# Altium footprint library Sangjian_Pcb.PcbLib: 434 footprints (part 27 of 28)
Each footprint in its own frame and in the unit in brackets; x right, y up, seen from the top. Pads: shape width x height; smd on the part's side, far side on the other; paste and mask are expansions set on the pad; w line width, h text height; cw(c..) or ccw(c..) is an arc to the next point about the centre after c.
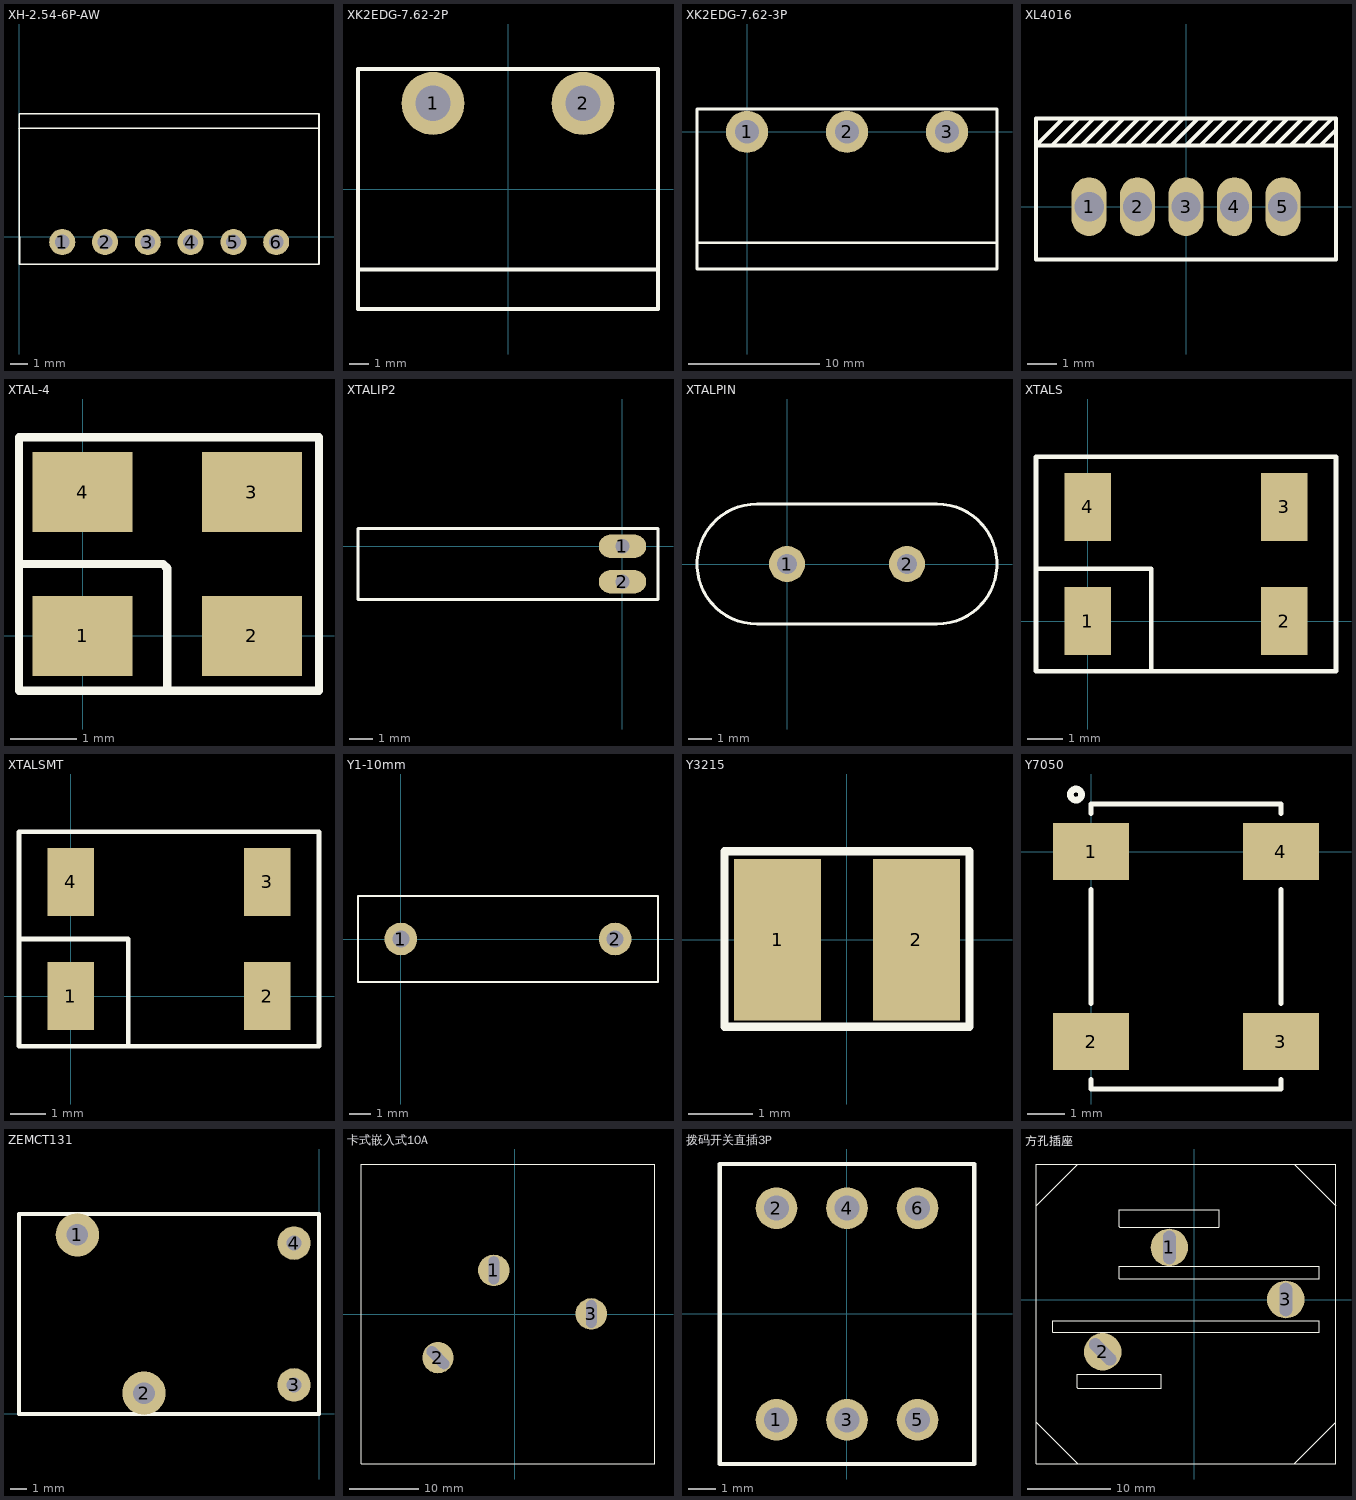
[diagram p26: the footprints below, top view; thin cyan lines are the x and y axes]

## XH-2.54-6P-AW [mil] "2.54白色端子 弯针6P"
pads (6):
  round 60 hole 34: 1(98.43,-11.81) 2(196.85,-11.81) 3(295.28,-11.81) 4(393.7,-11.81) 5(492.13,-11.81) 6(590.55,-11.81)
Top Overlay:
  lines w3.94: -1,250 689,250 ; -0.46,0 -0.46,283.46 688.98,283.46 ; 0,-63.06 688.98,-63.06 ; 0,-63 0,0 ; 689,-61 689,3 ; 689,1 689,283

## XK2EDG-7.62-2P [mm]
pads (2):
  round 3.2 hole 1.8: 1(-3.81,4.35) 2(3.81,4.35)
Top Overlay:
  lines w0.2: -7.569,-4.1 7.544,-4.1 ; -7.62,-6.1 -7.62,6.1 7.62,6.1 7.62,-6.1 -7.62,-6.1

## XK2EDG-7.62-3P [mm]
pads (3):
  round 3.2 hole 1.8: 1(0,0) 2(7.62,0) 3(15.24,0)
Top Overlay:
  lines w0.2: -3.759,-8.45 19.05,-8.45 ; -3.81,-10.45 19.05,-10.45 19.05,1.75 -3.81,1.75 -3.81,-10.45

## XL4016 [mm]
pads (5):
  oval 1.2x2 hole 1: 1(-3.3,0) 2(-1.65,0) 3(0,0) 4(1.65,0) 5(3.3,0)
Top Overlay:
  lines w0.127: -4.572,2.083 -3.653,2.997 ; -4.191,2.997 -5.11,2.083 5.11,2.083 ; -4.064,2.083 -3.145,2.997 ; -3.556,2.083 -2.637,2.997 ; -3.048,2.083 -2.129,2.997 ; -2.54,2.083 -1.621,2.997 ; -2.032,2.083 -1.113,2.997 ; -1.524,2.083 -0.605,2.997 ; -1.016,2.083 -0.097,2.997 ; -0.508,2.083 0.411,2.997 ; 0,2.083 0.919,2.997 ; 0.483,2.083 1.402,2.997 ; 1.016,2.083 1.935,2.997 ; 1.524,2.083 2.443,2.997 ; 2.032,2.083 2.951,2.997 ; 2.54,2.083 3.459,2.997 ; 3.048,2.083 3.967,2.997 ; 3.556,2.083 4.475,2.997 ; 4.064,2.083 4.983,2.997 ; 4.572,2.083 5.109,2.617 ; -5.11,-1.8 5.11,-1.8 5.11,3 -5.11,3 -5.11,-1.8

## XTAL-4 [mm]
pads (4):
  rect 1.5x1.2 smd: 1(0,0) 2(2.54,0) 3(2.54,2.159) 4(0,2.159)
Top Overlay:
  lines w0.127: -0.954,1.079 1.207,1.079 1.27,1.016 1.27,-0.762 ; -0.954,-0.821 -0.954,2.979 3.546,2.979 3.546,-0.821 -0.954,-0.821

## XTALIP2 [mm]
pads (2):
  oval 2x1 hole 0.6: 1(0,0) 2(0,-1.5)
Top Overlay:
  lines w0.127: 0.508,-2.25 0.992,-2.25 ; -11.176,-2.25 1.5,-2.25 1.5,0.75 -11.176,0.75 -11.176,-2.25

## XTALPIN [mil]
pads (2):
  round 60 hole 34: 1(0,0) 2(200,0)
Top Overlay:
  lines w5: -50,-100 cw(c-50,0) -50,100 250,100 cw(c250,0) 250,-100 -50,-100

## XTALS [mm]
pads (4):
  rect 1.3x1.9 smd: 1(0,0) 2(5.5,0) 3(5.5,3.2) 4(0,3.2)
Top Overlay:
  lines w0.127: -1.45,1.473 1.778,1.473 1.778,-1.4 ; -1.45,-1.4 -1.45,4.6 6.95,4.6 6.95,-1.4 -1.45,-1.4

## XTALSMT [mm]
pads (4):
  rect 1.3x1.9 smd: 1(0,0) 2(5.5,0) 3(5.5,3.2) 4(0,3.2)
Top Overlay:
  lines w0.127: -1.441,1.6 1.607,1.6 1.607,-1.4 ; -1.45,-1.4 6.95,-1.4 6.95,4.6 -1.45,4.6 -1.45,-1.4

## Y1-10mm [mil]
pads (2):
  round 60 hole 31.5: 1(0,0) 2(393.7,0)
Top Overlay:
  lines w3.94: -78.74,-78.74 -78.74,78.74 472.44,78.74 472.44,-78.74 -78.74,-78.74

## Y3215 [mm]
pads (2):
  rect 1.35x2.5 smd: 1(-1.075,0) 2(1.075,0)
Top Overlay:
  lines w0.127: -1.9,-1.346 -1.9,1.372 1.9,1.372 1.9,-1.346 -1.9,-1.346

## Y7050 [mil]
pads (4):
  rect 80x60 smd: 1(0,0) 2(0,-200) 3(200,-200) 4(200,0)
Top Overlay:
  circle w7: c-15.86,60 r5.86
  lines w5: 0,-240 0,-250 200,-250 200,-240 ; 0,-160 0,-40 ; 0,40 0,50 200,50 200,40 ; 200,-160 200,-40

## ZEMCT131 [mm]
pads (4):
  round 2.6 hole 1.3: 1(-14.5,10.75) 2(-10.5,1.25)
  round 2 hole 0.9: 3(-1.5,1.75) 4(-1.5,10.25)
Top Overlay:
  lines w0.254: -18,0 -18,12 0,12 0,0 -18,0

## 卡式嵌入式10A [mm] "五孔插座"
pads (3):
  round 4.5 hole 4 slot 1.5 at 0 deg: 1(-2.984,6.261) 3(10.986,0.013)
  round 4.5 hole 4 slot 1.5 at 45 deg: 2(-10.986,-6.261)
Top Overlay:
  lines w0.01: 20.1,-14.719 20.1,-21.5 ; 20.1,11.265 20.1,18.25 ; 20.1,-21.5 12.002,-21.5 -13.983,-21.5 -22,-21.5 -22,-14.719 -22,11.265 -22,21.5 -13.983,21.5 12.002,21.5 20.1,21.5 20.1,-21.5

## 拨码开关直插3P [mm]
pads (6):
  round 1.5 hole 0.9: 1(-2.54,-3.81) 2(-2.54,3.81) 3(0,-3.81) 4(0,3.81) 5(2.54,-3.81) 6(2.54,3.81)
Top Overlay:
  lines w0.15: -4.58,-5.4 -4.58,5.4 4.58,5.4 4.58,-5.4 -4.58,-5.4

## 方孔插座 [mm]
pads (3):
  round 4.5 hole 4 slot 1.5 at 0 deg: 1(-2.984,6.261) 3(10.986,0.013)
  round 4.5 hole 4 slot 1.5 at 45 deg: 2(-10.986,-6.261)
Top Overlay:
  lines w0.01: -18.986,-14.719 -13.983,-19.723 ; -18.986,-14.719 -18.986,11.265 ; -18.986,-14.719 -18.986,-19.723 -13.983,-19.723 ; -18.986,11.265 -13.983,16.269 ; -18.986,11.265 -18.986,16.269 -13.983,16.269 ; -13.983,-19.723 12.002,-19.723 ; -13.983,16.269 12.002,16.269 ; 12.002,-19.723 17.005,-14.719 ; 12.002,-19.723 17.005,-19.723 17.005,-14.719 ; 12.002,16.269 17.005,11.265 ; 12.002,16.269 17.005,16.269 17.005,11.265 ; 17.005,-14.719 17.005,11.265
  lines w0.127: -16.98,-3.924 -16.967,-3.937 -16.954,-3.924 14.999,-3.924 14.999,-2.553 -16.98,-2.553 -16.98,-3.924 ; -14.034,-10.554 -13.97,-10.617 -3.975,-10.617 -3.975,-8.928 -14.034,-8.928 -14.034,-10.554 ; -8.979,2.502 -8.979,3.975 14.999,3.975 14.999,2.502 -8.979,2.502 ; -8.979,8.75 -8.979,10.782 3.01,10.782 3.01,8.75 2.946,8.687 -8.915,8.687 -8.979,8.75